# EAGLE library part 64901421022 (library Wuerth_Elektronik_eiCan_Wire_to_Board_Connectors)
WR-MPC4-4.20mm Male Dual Row Angled Header with Mounting Flanges for Screw-in Retention,14 pins=>Code : Con_WTB_MPC4_2_PCB_64901421022 <http://katalog.we-online.de/media/thumbs2/eican/thb_Con_WTB_MPC4_2_PCB_6490xx21022_pf2.jpg> Details see: http://katalog.we-online.de/en/em/649_0xx_210_22 Created 2014-06-06, Karrer Zheng 2014 (C) Würth Elektronik
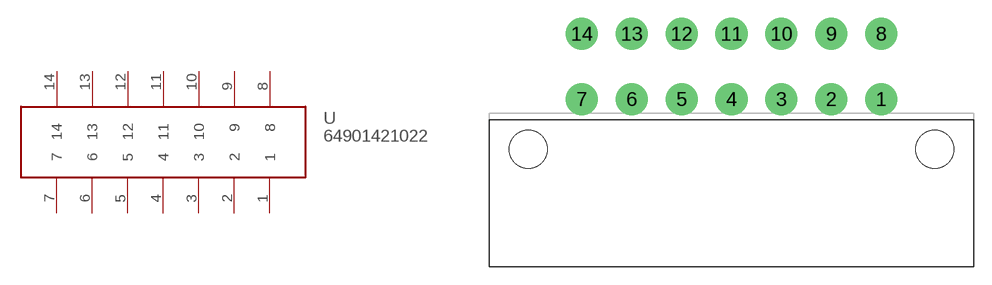
[diagram p295: symbol with the pads of 64901421022; footprint 64901421022]

Designator prefix -

## 64901421022  [64901421022]
1  1
2  2
3  3
4  4
5  5
6  6
7  7
8  8
9  9
10  10
11  11
12  12
13  13
14  14

## Footprint 64901421022 (pad centres in mm)
WR-MPC4-4.20mm Male Dual Row Angled Header with Mounting Flanges for Screw-in Retention,14 pins
drill 1.8: 1 12.635,-2.75; 2 8.435,-2.75; 3 4.235,-2.75; 4 0.035,-2.75; 5 -4.165,-2.75; 6 -8.365,-2.75; 7 -12.565,-2.75; 8 12.635,2.75; 9 8.435,2.75; 10 4.235,2.75; 11 0.035,2.75; 12 -4.165,2.75; 13 -8.365,2.75; 14 -12.565,2.75
hole 3.2 at -17.065,-6.95
hole 3.2 at 17.135,-6.95